# Altium footprint library CON_USB_TypeA_RA_VERT_TH.PcbLib: 1 footprints
Each footprint in its own frame and in the unit in brackets; x right, y up, seen from the top. Pads: shape width x height; smd on the part's side, far side on the other; paste and mask are expansions set on the pad; w line width, h text height; cw(c..) or ccw(c..) is an arc to the next point about the centre after c.
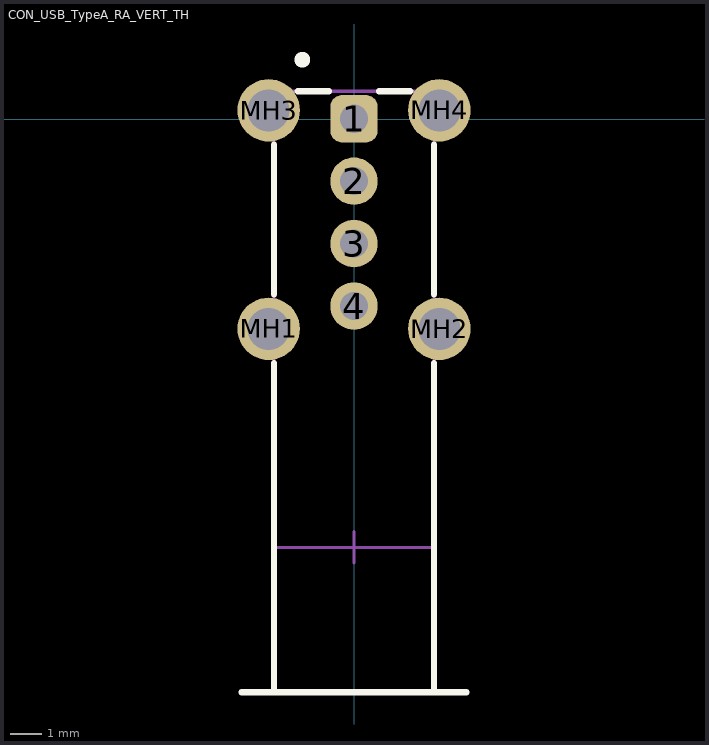
[diagram p0: the footprint, top view; thin cyan lines are the x and y axes]

## CON_USB_TypeA_RA_VERT_TH [mm] "USB Type A Vertical Port with TH"
pads (8):
  rrect50% 1.52x1.52 hole 0.9: 1(0,0.014)
  round 1.52 hole 0.9: 2(0,-1.986) 3(0,-3.986) 4(0,-5.986)
  round 2 hole 1.35: MH1(-2.735,-6.716) MH2(2.735,-6.716) MH3(-2.735,0.284) MH4(2.735,0.284)
Top Overlay:
  circle w0.25: c-1.656,1.905 r0.125
  lines w0.2: -3.6,-18.356 3.6,-18.356 ; -2.56,-18.356 -2.56,-7.816 ; -2.56,-5.616 -2.56,-0.816 ; -1.8,0.894 -0.8,0.894 ; 0.8,0.894 1.8,0.894 ; 2.56,-18.356 2.56,-7.816 ; 2.56,-5.616 2.56,-0.816
Mechanical 1:
  lines w0.1: -2.56,-13.716 2.56,-13.716
  text "PCB Edge" at -1.5,-13.416 h0.4
Mechanical 13:
  lines w0.1: -3.6,-18.356 3.6,-18.356 ; -2.56,-18.356 -2.56,0.894 2.56,0.894 2.56,-18.356
Mechanical 15:
  lines w0.1: -0.5,-13.716 0.5,-13.716 ; 0,-14.216 0,-13.216
3D body "482040001.stp": height 14.68, standoff -3.61, extent -3.606,-18.429 3.594,0.821